# EAGLE library part RESB100B (library CubeSat_OBC_Library)
RES 4-isolated 1206 1% Q200
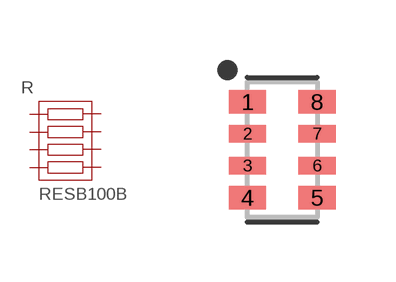
[diagram p0: symbol with the pads of RESCAXS80P320X160X60-8N; footprint RESCAXS80P320X160X60-8N]

Designator prefix R

## RESB100B_RES_4-ISOLATED_1206_1%_Q200 (TYPE: 4 PACK ISOL)  [RESCAXS80P320X160X60-8N]
1  P$1
2  P$2
3  P$3
4  P$4
5  P$5
6  P$6
7  P$7
8  P$8

## Footprint RESCAXS80P320X160X60-8N (pad centres in mm)
8-Chiparray 2-Side Convex, 0.80 mm pitch, 3.20 X 1.60 X 0.60 mm body 8-pin Chiparray 2-Side Convex package with 0.80 mm pitch with body size 3.20 X 1.60 X 0.60 mm
smd 0.931 x 0.592: 1 -0.87,1.2; 4 -0.87,-1.2; 5 0.87,-1.2; 8 0.87,1.2
smd 0.931 x 0.442: 2 -0.87,0.4; 3 -0.87,-0.4; 6 0.87,-0.4; 7 0.87,0.4